# EAGLE library part PROGRAM/DEBUG_PORT (library DubSat1 Components)
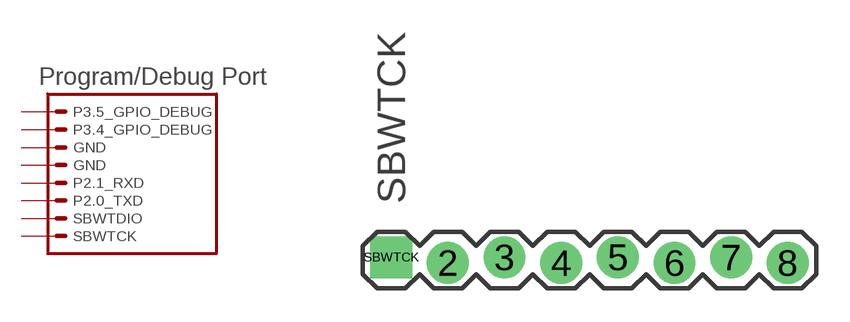
[diagram p4: symbol with the pads of 1X08_CONNECTOR; footprint 1X08_CONNECTOR]

Designator prefix -

## PROGRAM/DEBUG_PORT  [1X08_CONNECTOR]
2  SBWTDIO
3  P2.0_TXD
4  P2.1_RXD
5  GND
6  GND
7  P3.4_GPIO_DEBUG
8  P3.5_GPIO_DEBUG
SBWTCK  SBWTCK

## Footprint 1X08_CONNECTOR (pad centres in mm)
drill 1.016 pad 1.88: 2 2.54,-0.127; 3 5.08,0.127; 4 7.62,-0.127; 5 10.16,0.127; 6 12.7,-0.127; 7 15.24,0.127; 8 17.78,-0.127
drill 1.016 pad 1.88 square: SBWTCK 0,0.127